# EAGLE library part MINI-USB-5-DPI (library MyComponents)
Mini USB Type B Connector
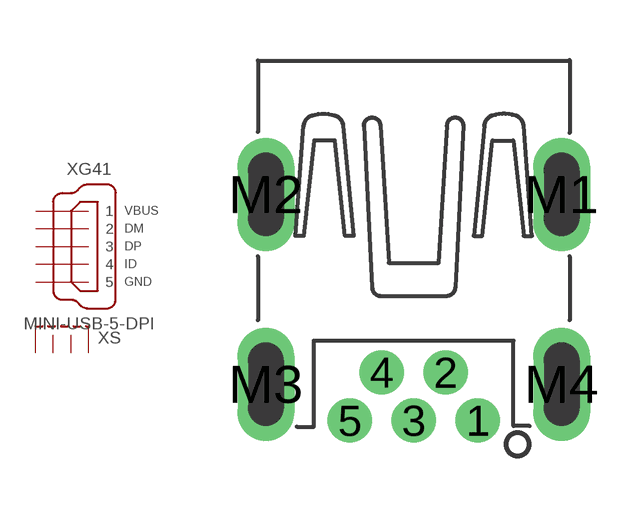
[diagram p1: symbol with the pads of XM7D-0512; footprint XM7D-0512]

Designator prefix X; gates G41=MINI-USB-5 S=SHIELD4

## MINI-USB-5-DPI (MOUSER: 653-XM7D-0512)  [XM7D-0512]
1  G41:1  pas
2  G41:2  pas
3  G41:3  pas
4  G41:4  pas
5  G41:5  pas
M1  S:S1  pas
M2  S:S2  pas
M3  S:S3  pas
M4  S:S4  pas

## Footprint XM7D-0512 (pad centres in mm)
mini-B-type socket
drill 0.6 pad 1.016: 1 1.6,-0.9; 2 0.8,0.3; 3 0,-0.9; 4 -0.8,0.3; 5 -1.6,-0.9
drill 0.9 pad 1.422 long: M1 3.7,4.75; M2 -3.7,4.75; M3 -3.7,0; M4 3.7,0